# Altium integrated library Crystal.IntLib: 2 symbols
Pins are listed as number, name and electrical type; pins without a type are passive.

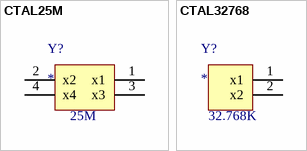
[diagram p0: symbols CTAL25M to CTAL32768]

## CTAL25M
designator Y?  value 25M
footprint CTAL25M
pins: 1 x1, 2 x2, 3 x3, 4 x4

## CTAL32768
designator Y?  value 32.768K
footprint CTAL32768
pins: 1 x1, 2 x2